# EAGLE library part BTE-020-02-X-D-A (library samtec)
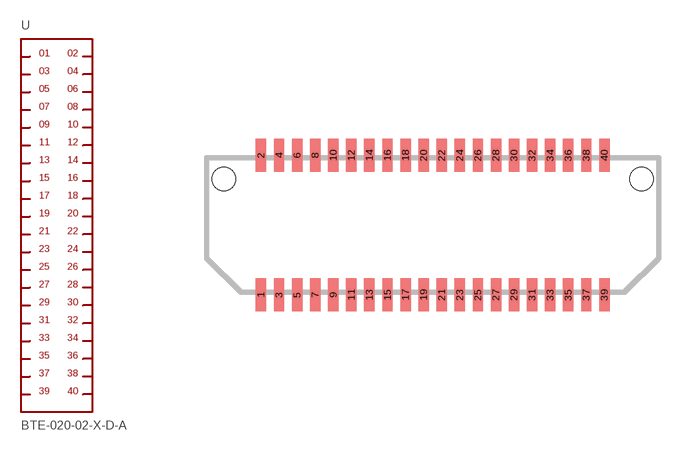
[diagram p14: symbol with the pads of BTE-020-XX-X-D-A; footprint BTE-020-XX-X-D-A]

Designator prefix -

## BTE-020-02-X-D-A  [BTE-020-XX-X-D-A]
1  1
2  2
3  3
4  4
5  5
6  6
7  7
8  8
9  9
10  10
11  11
12  12
13  13
14  14
15  15
16  16
17  17
18  18
19  19
20  20
21  21
22  22
23  23
24  24
25  25
26  26
27  27
28  28
29  29
30  30
31  31
32  32
33  33
34  34
35  35
36  36
37  37
38  38
39  39
40  40

## Footprint BTE-020-XX-X-D-A (pad centres in mm)
PCB Libraries Packages \
smd 0.46 x 1.45: 1 -7.6,-3.085; 2 -7.6,3.085; 3 -6.8,-3.085; 4 -6.8,3.085; 5 -6,-3.085; 6 -6,3.085; 7 -5.2,-3.085; 8 -5.2,3.085; 9 -4.4,-3.085; 10 -4.4,3.085; 11 -3.6,-3.085; 12 -3.6,3.085; 13 -2.8,-3.085; 14 -2.8,3.085; 15 -2,-3.085; 16 -2,3.085; 17 -1.2,-3.085; 18 -1.2,3.085; 19 -0.4,-3.085; 20 -0.4,3.085; 21 0.4,-3.085; 22 0.4,3.085; 23 1.2,-3.085; 24 1.2,3.085; 25 2,-3.085; 26 2,3.085; 27 2.8,-3.085; 28 2.8,3.085; 29 3.6,-3.085; 30 3.6,3.085; 31 4.4,-3.085; 32 4.4,3.085; 33 5.2,-3.085; 34 5.2,3.085; 35 6,-3.085; 36 6,3.085; 37 6.8,-3.085; 38 6.8,3.085; 39 7.6,-3.085; 40 7.6,3.085
hole 1.02 at -9.24,2.035
hole 1.02 at 9.24,2.035